# Altium footprint library Connector - Omron, XG4C-2034.PcbLib: 1 footprints
Each footprint in its own frame and in the unit in brackets; x right, y up, seen from the top. Pads: shape width x height; smd on the part's side, far side on the other; paste and mask are expansions set on the pad; w line width, h text height; cw(c..) or ccw(c..) is an arc to the next point about the centre after c.
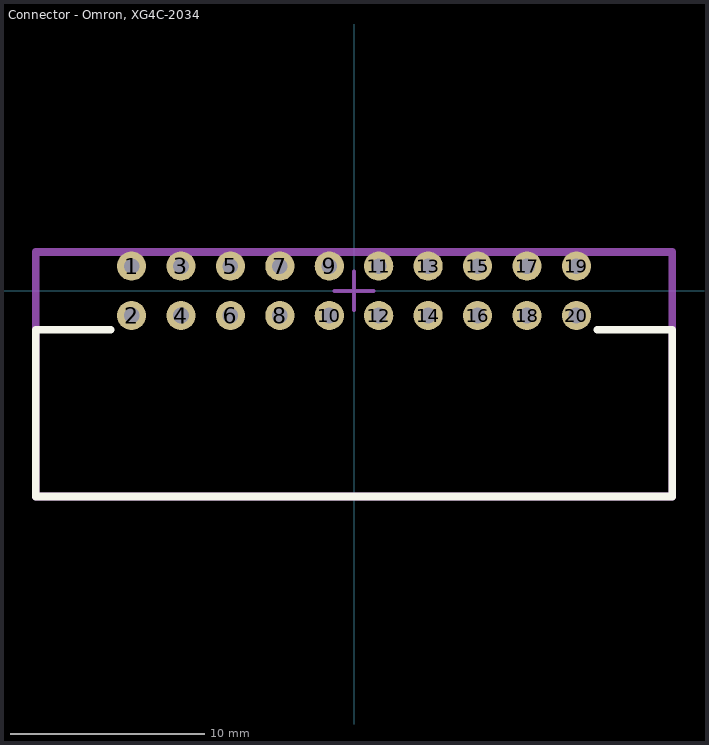
[diagram p0: the footprint, top view; thin cyan lines are the x and y axes]

## Connector - Omron, XG4C-2034 [mm] "Connector - Omron, XG4C-2034"
height 8.2
pads (20):
  round 1.5 hole 0.8 mask+0.05: 1(-11.43,1.27) 2(-11.43,-1.27) 3(-8.89,1.27) 4(-8.89,-1.27) 5(-6.35,1.27) 6(-6.35,-1.27) 7(-3.81,1.27) 8(-3.81,-1.27) 9(-1.27,1.27) 10(-1.27,-1.27) 11(1.27,1.27) 12(1.27,-1.27) 13(3.81,1.27) 14(3.81,-1.27) 15(6.35,1.27) 16(6.35,-1.27) 17(8.89,1.27) 18(8.89,-1.27) 19(11.43,1.27) 20(11.43,-1.27)
Top Overlay:
  lines w0.4: -12.5,-2 -16.35,-2 -16.35,-10.57 16.35,-10.57 16.35,-2 12.5,-2
Top Assembly:
  lines w0.4: -16.35,-10.57 16.35,-10.57 16.35,2 -16.35,2 -16.35,-10.57
Top Designator:
  text ".Designator" at -6,-8.437 h3
Top Component Center:
  lines w0.2: -1,0 1,0 ; 0,-1 0,1
3D body "Connector - Omron, XG4C-2034.step": height 8.5, standoff -3.2, extent -16.36,-10.535 16.36,1.582